# Altium footprint library EPCOS_B82790.PcbLib: 1 footprints
Each footprint in its own frame and in the unit in brackets; x right, y up, seen from the top. Pads: shape width x height; smd on the part's side, far side on the other; paste and mask are expansions set on the pad; w line width, h text height; cw(c..) or ccw(c..) is an arc to the next point about the centre after c.
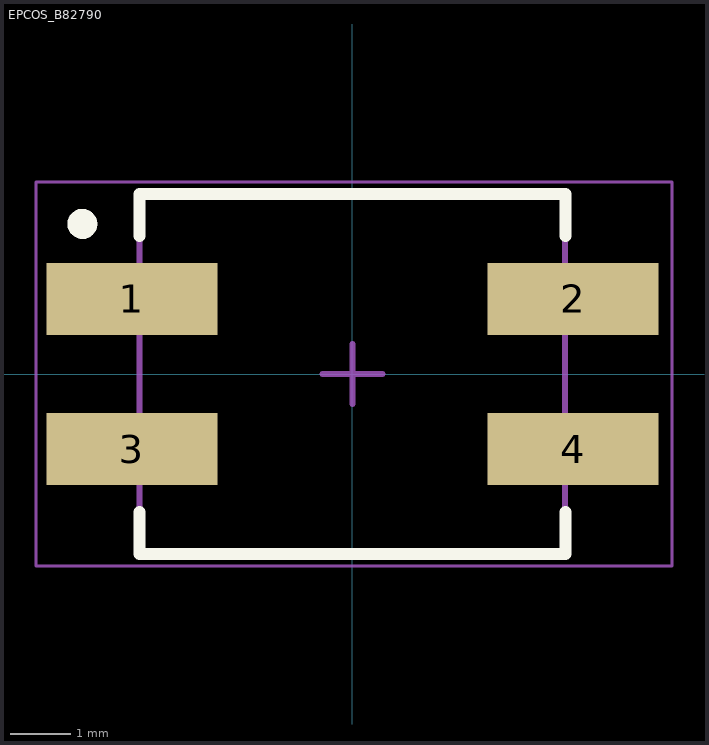
[diagram p0: the footprint, top view; thin cyan lines are the x and y axes]

## EPCOS_B82790 [mm]
height 5.2
pads (4):
  rect 2.85x1.2 smd: 1(-3.675,1.25) 2(3.675,1.25) 3(-3.675,-1.25) 4(3.675,-1.25)
Top Overlay:
  circle w0.25: c-4.5,2.5 r0.125
  lines w0.2: -3.55,-2.3 -3.55,-3 3.55,-3 3.55,-2.3 ; -3.55,2.3 -3.55,3 3.55,3 3.55,2.3
Mechanical 13:
  lines w0.1: -3.551,-3 -3.551,3 3.543,3 3.543,-3 -3.551,-3
Mechanical 15:
  lines w0.05: -5.275,-3.2 -5.275,3.2 5.325,3.2 5.325,-3.2 -5.275,-3.2
Mechanical 2 (Mech9):
  lines w0.1: -0.5,0 0.5,0 ; 0,-0.5 0,0.5
3D body "B82790C0105N240.step": height 5.2, standoff 0, extent -4.5,-3 4.5,3